# Altium schematic symbol library BeaconBoard.SchLib: 18 symbols
Pins are listed as number, name and electrical type; pins without a type are passive.

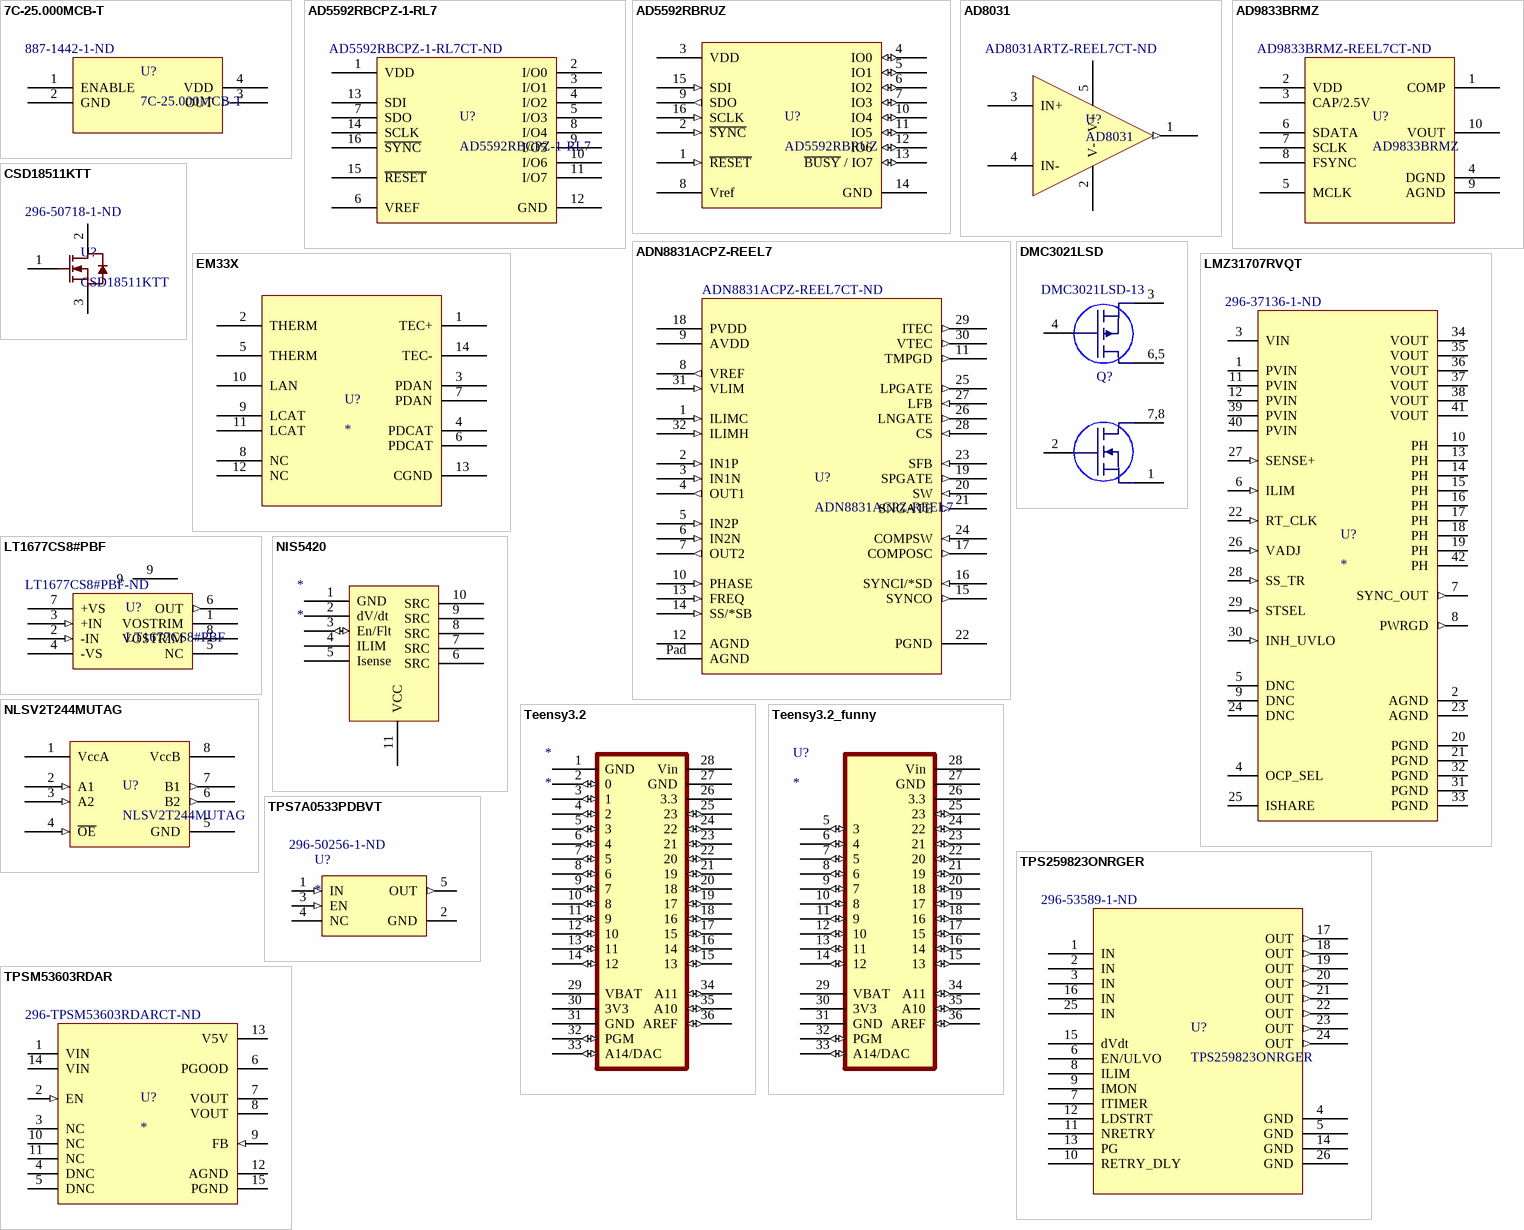
[diagram p0: symbols 7C-25.000MCB-T to TPSM53603RDAR]

## 7C-25.000MCB-T
designator U?  Supplier Part Number 1: 887-1442-1-ND
25 MHz XO (Standard) CMOS Oscillator 2.5V Enable/Disable 4-SMD, No Lead; Vendor: TXC; Built_By: EMA_UL_Team; SourceLibrary: TXC_2011-01-01_OSC_7C; Manufacturer_Part_Number: 7C-25.000MCB-T; Copyright: Copyright (C) 2021 Accelerated Designs. All rights reserved; RefDes: RefDes; Type: DEV; ComponentLink1Description: New link; ComponentLink1URL: *; Supplier 1: Digi-Key
footprint OSC_TXC_7C_TXC
pins: 1 ENABLE, 2 GND (power), 3 OUT (out), 4 VDD (power)

## AD5592RBCPZ-1-RL7
designator U?  Supplier Part Number 1: AD5592RBCPZ-1-RL7CT-ND
8-Channel, 12-Bit, Configurable ADC/DAC with On-Chip Reference, SPI Interface, LFCSP; SourceLibrary: Analog_2015-12-15; Built_By: EMA_UL_Team; Vendor: Analog Devices Inc; Manufacturer_Part_Number: AD5592RBCPZ-1-RL7; Copyright: Copyright (C) 2021 Accelerated Designs. All rights reserved; RefDes: RefDes; Type: DEV; Supplier 1: Digi-Key
footprint LFCSP CP 16 2 (Analog devive package LFCSP CP 16 2)
pins: 1 VDD, 2 I/O0, 3 I/O1, 4 I/O2, 5 I/O3, 6 VREF, 7 SDO, 8 I/O4, 9 I/O5, 10 I/O6, 11 I/O7, 12 GND, 13 SDI, 14 SCLK, 15 ~{RESET}, 16 ~{SYNC}

## AD5592RBRUZ
designator U?
8-Channel, 12-Bit, Configurable ADC/DAC with On-Chip Reference, SPI Interface, TSSOP; Ref: AD5592RBRUZ
footprint TSSOP16
pins: 1 ~{RESET} (in) "Polarity selection", 2 ~{SYNC} (in) "Polarity selection", 3 VDD (power) "Polarity selection", 4 IO0 (io) "Polarity selection", 5 IO1 (io) "Polarity selection", 6 IO2 (io) "Polarity selection", 7 IO3 (io) "Polarity selection", 8 Vref (hiz) "Polarity selection", 9 SDO (out) "Polarity selection", 10 IO4 (io) "Polarity selection", 11 IO5 (io) "Polarity selection", 12 IO6 (io) "Polarity selection", 13 ~{BUSY} / IO7 (io) "Polarity selection", 14 GND (power) "Polarity selection", 15 SDI (in) "Polarity selection", 16 SCLK (in) "Polarity selection"

## AD8031
designator U?  Supplier Part Number 1: AD8031ARTZ-REEL7CT-ND
2.7V, 800 uA, 80 MHz Rail-to-Rail I/O Amplifiers; Ref: AD8031; Supplier 1: Digi-Key
footprint TSOT-23-5
pins: 1 OUT (out), 2 V-, 3 IN+ (hiz), 4 IN- (hiz), 5 V+

## AD9833BRMZ
designator U?  Supplier Part Number 1: AD9833BRMZ-REEL7CT-ND
Low Power, 12.65 mW, 2.3 V to 5.5 V, Programmable Waveform Generator; Vendor: Analog Devices Inc; SourceLibrary: Analog_2015-12-15; Built_By: EMA_UL_Team; Manufacturer_Part_Number: AD9833BRMZ; Copyright: Copyright (C) 2018 Accelerated Designs. All rights reserved; RefDes: RefDes; Type: DEV; Supplier 1: Digi-Key
footprint RM_10_ADI
pins: 1 COMP, 2 VDD (power), 3 CAP/2.5V (power), 4 DGND, 5 MCLK, 6 SDATA, 7 SCLK, 8 FSYNC, 9 AGND, 10 VOUT

## ADN8831ACPZ-REEL7
designator U?  Supplier Part Number 1: ADN8831ACPZ-REEL7CT-ND
A High Efficiency TEC Controller Solution; SourceLibrary: Analog_2015-01-06; Built_By: EMA_UL_Team; Vendor: Analog Devices Inc; Manufacturer_Part_Number: ADN8831ACPZ-REEL7; Copyright: Copyright (C) 2018 Accelerated Designs. All rights reserved; RefDes: RefDes; Type: DEV; Supplier 1: Digi-Key
footprint LFCSP CP 32 7 (Analog devive package LFCSP CP 32 7)
pins: 1 ILIMC (in), 2 IN1P (in), 3 IN1N (in), 4 OUT1 (out), 5 IN2P (in), 6 IN2N (in), 7 OUT2 (out), 8 VREF (out), 9 AVDD (power), 10 PHASE (in), 11 TMPGD (out), 12 AGND (power), 13 FREQ (in), 14 SS/*SB (in), 15 SYNCO (out), 16 SYNCI/*SD (in), 17 COMPOSC (out), 18 PVDD (power), 19 SPGATE (out), 20 SW (in), 21 SNGATE (out), 22 PGND (power), 23 SFB (in), 24 COMPSW (in), 25 LPGATE (out), 26 LNGATE (out), 27 LFB (in), 28 CS (in), 29 ITEC (out), 30 VTEC (out), 31 VLIM (in), 32 ILIMH (in), Pad AGND (power)

## CSD18511KTT
designator U?  Supplier Part Number 1: 296-50718-1-ND
40-V, N channel NexFET™ power MOSFET, single D2PAK, 2.6 mOhm; Vendor: Texas Instruments; Built_By: EMA_Jessica; SourceLibrary: TI_2019-05-10; Manufacturer_Part_Number: CSD18511KTT; Copyright: Copyright (C) 2018 Accelerated Designs. All rights reserved; RefDes: RefDes; Type: DEV; Supplier 1: Digi-Key
footprint DPAK (DPAK power transistor)
pins: 1 G "gate", 2 D "drain", 3 S "source"

## DMC3021LSD
designator Q?  Supplier Part Number 1: DMC3021LSD-13
Trans Mosfet N/p-ch 30V 8.5A/7A 8-PIN SOIC T/r; Manufacturer: Diodes; Gate to Source Voltage (Vgs): 20V; Rds On Max: 21mR; Input Capacitance: 767pF; Number of Elements: 2; Max Power Dissipation: 2.5W; Continuous Drain Current (ID): 8.5A; Drain to Source Resistance: 14mR; Turn-Off Delay Time: 50.1ns; FET Type: N and P-Channel; Polarity: N-CHANNEL,P-CHANNEL; Supplier 1: Arrow Electronics; Manufacturer Part Number: DMC3021LSD-13; RoHS: Yes; Category: MOSFETs; Stock 1: 2500; Pricing 1: 1=0,52330, 10=0,42450, 25=0,42030, 100=0,30620, 250=0,30310, 500=0,23740, 1000=0,20330 (USD); Mount: Surface Mount; Case/Package: SOIC; Number of Pins: 8; Weight: 0.00261oz; Min Operating Temperature: -55°C; Max Operating Temperature: 150°C; Packaging: Tape and Reel; Package Quantity: 2500; Power Dissipation: 2.5W; Drain to Source Voltage (Vdss): 30V; Number of Channels: 2; Series: -; Length: 4.95mm; Width: 3.95mm; Height: 1.5mm; Radiation Hardening: No; REACH SVHC: No SVHC; RoHS Compliant: Yes; ComponentLink1URL: https://datasheet.ciiva.com/4443/ds32152-88645-4443219.pdf?src-supplier=Mouser; ComponentLink1Description: https://datasheet.ciiva.com/4443/ds32152-88645-4443219.pdf?src-supplier=Mouser; ComponentLink2URL: https://datasheet.ciiva.com/928/ds32152-928775.pdf?src-supplier=Digi-Key; ComponentLink2Description: https://datasheet.ciiva.com/928/ds32152-928775.pdf?src-supplier=Digi-Key; ComponentLink3URL: https://datasheet.ciiva.com/928/ds32152-928776.pdf?src-supplier=Digi-Key; ComponentLink3Description: https://datasheet.ciiva.com/928/ds32152-928776.pdf?src-supplier=Digi-Key; ComponentLink4URL: https://datasheet.ciiva.com/928/ds32152-928777.pdf?src-supplier=Digi-Key; ComponentLink4Description: https://datasheet.ciiva.com/928/ds32152-928777.pdf?src-supplier=Digi-Key
footprint SO-8 (SO-8 large pads)
pins: 1, 2, 3, 4, 6,5, 7,8

## EM33X
designator U?
5W Cooled 9XX Multimode Lasers in 14-Pin Package
footprint AC1409 (Butterfly for GH High Power DFB Laser)
pins: 1 TEC+, 2 THERM, 3 PDAN, 4 PDCAT, 5 THERM, 6 PDCAT, 7 PDAN, 8 NC, 9 LCAT, 10 LAN, 11 LCAT, 12 NC, 13 CGND, 14 TEC-

## LMZ31707RVQT
designator U?  Supplier Part Number 1: 296-37136-1-ND
Non-Isolated DC/DC Converters 7A Power Module w/ 2.95V-17V Input; PartNumber: LMZ31707RVQR; Manufacturer: Texas Instruments; RefDes: RefDes; Type: DEV; Value: Value; Copyright: Copyright (C) 2018 Accelerated Designs. All rights reserved; Supplier 1: Digi-Key
footprint PB3QFN (QFN42 for the LMZ317xx)
pins: 1 PVIN (power), 2 AGND (power), 3 VIN (power), 4 OCP_SEL, 5 DNC, 6 ILIM (in), 7 SYNC_OUT (out), 8 PWRGD (out), 9 DNC, 10 PH (power), 11 PVIN (power), 12 PVIN (power), 13 PH (power), 14 PH (power), 15 PH (power), 16 PH (power), 17 PH (power), 18 PH (power), 19 PH (power), 20 PGND (power), 21 PGND (power), 22 RT_CLK (in), 23 AGND (power), 24 DNC, 25 ISHARE, 26 VADJ (in), 27 SENSE+ (in), 28 SS_TR (in), 29 STSEL (in), 30 INH_UVLO (in), 31 PGND (power), 32 PGND (power), 33 PGND (power), 34 VOUT (power), 35 VOUT (power), 36 VOUT (power), 37 VOUT (power), 38 VOUT (power), 39 PVIN (power), 40 PVIN (power), 41 VOUT (power), 42 PH (power)

## LT1677CS8#PBF
designator U?  Supplier Part Number 1: LT1677CS8#PBF-ND
Low Noise, Rail-to-Rail Precision Op Amp; Vendor: Linear Technology; Built_By: EMA_UL_Team; SourceLibrary: LinearTech_2016-05-13_8; Manufacturer_Part_Number: LT1677CS8#PBF; Copyright: Copyright (C) 2018 Accelerated Designs. All rights reserved; RefDes: RefDes; Type: DEV; Supplier 1: Digi-Key
footprint SO-8_S_LIT
pins: 1 VOSTRIM, 2 -IN (in), 3 +IN (in), 4 -VS (power), 5 NC, 6 OUT (out), 7 +VS (power), 8 VOSTRIM, 9

## NIS5420
designator *
footprint SON50P300X10_HS-11N (SON, 10-Leads, Body 3.00x3.00mm, Pitch 0.50mm, Thermal Pad 2.50x1.68mm, IPC Medium Density)
pins: 1 GND (power), 2 dV/dt, 3 En/Flt (io), 4 ILIM, 5 Isense, 6 SRC (power), 7 SRC (power), 8 SRC (power), 9 SRC (power), 10 SRC (power), 11 VCC (power)

## NLSV2T244MUTAG
designator U?
Voltage Level Translator Unidirectional 1 Circuit 2 Channel - 8-UDFN (1.8x1.2); Supplier 1: Digi-Key; Supplier Part Number 1: NLSV2T244MUTAGOSCT-ND; Ref: NLSV2T244MUTAG
footprint UDFN8
pins: 1 VccA (power) "Power input", 2 A1 (in) "Output Fault Indicator", 3 A2 (in) "Output Fault Indicator", 4 ~{OE} (in) "Output Fault Indicator", 5 GND (power) "Ground", 6 B2 (out) "Output Fault Indicator", 7 B1 (out) "Output Fault Indicator", 8 VccB (power) "Power input"

## Teensy3.2
designator *
footprint DIP28-600
pins: 1 GND (power), 2 0 (io), 3 1 (io), 4 2 (io), 5 3 (io), 6 4 (io), 7 5 (io), 8 6 (io), 9 7 (io), 10 8 (io), 11 9 (io), 12 10 (io), 13 11 (io), 14 12 (io), 15 13 (io), 16 14 (io), 17 15 (io), 18 16 (io), 19 17 (io), 20 18 (io), 21 19 (io), 22 20 (io), 23 21 (io), 24 22 (io), 25 23 (io), 26 3.3 (power), 27 GND (power), 28 Vin (power), 29 VBAT (power), 30 3V3 (power), 31 GND (power), 32 PGM (io), 33 A14/DAC (io), 34 A11 (io), 35 A10 (io), 36 AREF (io)

## Teensy3.2_funny
designator U?
footprint DIP28-600
pins: 5 3 (io), 6 4 (io), 7 5 (io), 8 6 (io), 9 7 (io), 10 8 (io), 11 9 (io), 12 10 (io), 13 11 (io), 14 12 (io), 15 13 (io), 16 14 (io), 17 15 (io), 18 16 (io), 19 17 (io), 20 18 (io), 21 19 (io), 22 20 (io), 23 21 (io), 24 22 (io), 25 23 (io), 26 3.3 (power), 27 GND (power), 28 Vin (power), 29 VBAT (power), 30 3V3 (power), 31 GND (power), 32 PGM (io), 33 A14/DAC (io), 34 A11 (io), 35 A10 (io), 36 AREF (io)

## TPS7A0533PDBVT
designator U?  Supplier Part Number 1: 296-50256-1-ND
Linear Voltage Regulator IC Positive Fixed 1 Output 200mA SOT-23-5; PartNumber: TPS7A2050PDBVR; Manufacturer: Texas Instruments; RefDes: RefDes; Type: DEV; Value: Value; Copyright: Copyright (C) 2021 Accelerated Designs. All rights reserved; Supplier 1: Digi-Key
footprint DBV0005A-MFG
pins: 1 IN (in), 2 GND (power), 3 EN (in), 4 NC, 5 OUT (out)

## TPS259823ONRGER
designator U?  Supplier Part Number 1: 296-53589-1-ND
Smart Electronic Fuse with Accurate Load Current Monitor 2.7mOhm 15A 2.7V to 24V 24-Pin VQFN T/R; Manufacturer Part Number: TPS259824ONRGER; SourceLibrary: TI_2020-06-09; Built_By: EMA_Matt; Vendor: Texas Instruments; Manufacturer_Part_Number: TPS259823ONRGER; Copyright: Copyright (C) 2018 Accelerated Designs. All rights reserved; Datasheet: http://www.ti.com/lit/ds/symlink/tps25982.pdf?HQS=TI-null-null-digikeymode-df-pf-null-wwe&ts=1591728273628&ref_url=http://www.ti.com/general/docs/suppproductinfo.tsp?distId%3D10&gotoUrl=http://www.ti.com/lit/gpn/tps25982; RefDes: RefDes; Type: DEV; Supplier 1: Digi-Key; Manufacturer: Texas Instruments; RoHS: Yes; Category: Integrated Circuits (ICs); Pricing 1: 1=3.09000, 10=2.77500, 25=2.62360, 100=2.27370, 250=2.15712, 500=1.93556, 1000=1.83700 (USD)
footprint IC24_TPS259802ONRGER_TEX
pins: 1 IN, 2 IN, 3 IN, 4 GND, 5 GND, 6 EN/ULVO, 7 ITIMER, 8 ILIM, 9 IMON, 10 RETRY_DLY, 11 NRETRY, 12 LDSTRT, 13 PG, 14 GND, 15 dVdt, 16 IN, 17 OUT (out), 18 OUT (out), 19 OUT (out), 20 OUT (out), 21 OUT (out), 22 OUT (out), 23 OUT (out), 24 OUT (out), 25 IN, 26 GND

## TPSM53603RDAR
designator U?  Supplier Part Number 1: 296-TPSM53603RDARCT-ND
36-V, 3-A step-down power module in small 5.5 x 5 x 4-mm Enhanced HotRod™ QFN with simple footprint; Manufacturer: Texas Instruments; PartNumber: TPSM53603RDAR; RefDes: RefDes; Type: DEV; Value: Value; Copyright: Copyright (C) 2018 Accelerated Designs. All rights reserved; Supplier 1: Digi-Key
footprint RDA0015A
pins: 1 VIN (power), 2 EN (in), 3 NC, 4 DNC, 5 DNC, 6 PGOOD (oc), 7 VOUT (power), 8 VOUT (power), 9 FB (in), 10 NC, 11 NC, 12 AGND (power), 13 V5V (power), 14 VIN (power), 15 PGND (power)